# Altium footprint library CAPRB750W60L900T600H1300.PcbLib: 1 footprints
Each footprint in its own frame and in the unit in brackets; x right, y up, seen from the top. Pads: shape width x height; smd on the part's side, far side on the other; paste and mask are expansions set on the pad; w line width, h text height; cw(c..) or ccw(c..) is an arc to the next point about the centre after c.
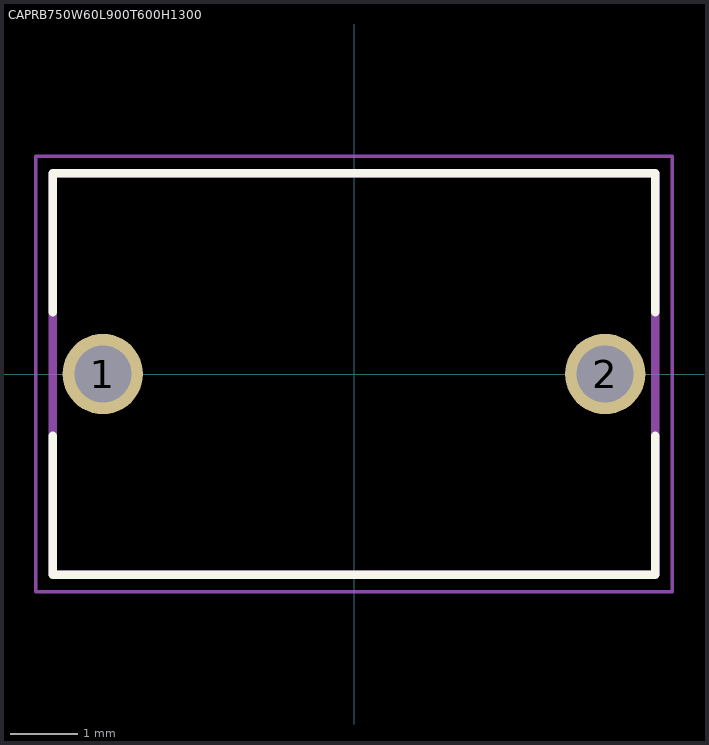
[diagram p0: the footprint, top view; thin cyan lines are the x and y axes]

## CAPRB750W60L900T600H1300 [mm]
pads (2):
  round 1.2 hole 0.85: 1(-3.75,0) 2(3.75,0)
Top Overlay:
  lines w0.127: -4.5,-0.92 -4.5,-3 4.5,-3 4.5,-0.92 ; -4.5,0.92 -4.5,3 4.5,3 4.5,0.92
Assembly Top:
  lines w0.127: -4.5,-3 -4.5,3 4.5,3 4.5,-3 -4.5,-3
Courtyard Top:
  lines w0.05: -4.75,-3.25 -4.75,3.25 4.75,3.25 4.75,-3.25 -4.75,-3.25
3D body "step_temp.STEP": height 13, standoff -6, extent -4.5,-3 4.5,3